# EAGLE library part JHD508-12864 (library baseOauth)
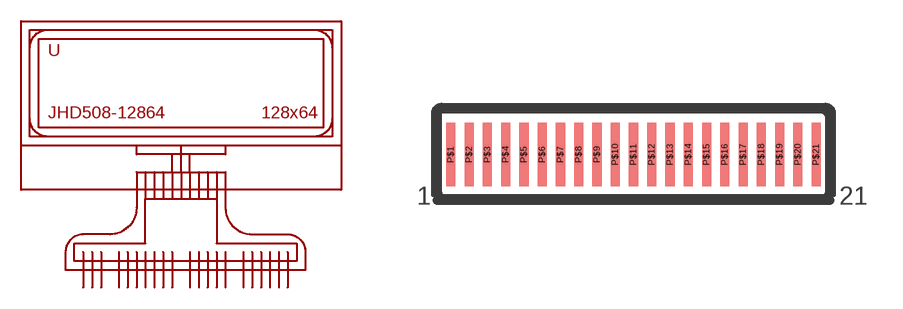
[diagram p0: symbol with the pads of FSTN; footprint FSTN]

Designator prefix -

## JHD508-12864  [FSTN]
P$1  IRS
P$2  VR
P$3  V5
P$4  V4
P$5  V3
P$6  V2
P$7  V1
P$8  CAP4N
P$9  CAP2P
P$10  CAP2N
P$11  CAP1N
P$12  CAP1P
P$13  CAP3N
P$14  VOUT
P$15  GND
P$16  VDD
P$17  SI
P$18  SCL
P$19  A0
P$20  /RES
P$21  /CS1

## Footprint FSTN (pad centres in mm)
smd 0.4 x 2.8: P$1 -8,1.4; P$2 -7.2,1.4; P$3 -6.4,1.4; P$4 -5.6,1.4; P$5 -4.8,1.4; P$6 -4,1.4; P$7 -3.2,1.4; P$8 -2.4,1.4; P$9 -1.6,1.4; P$10 -0.8,1.4; P$11 0,1.4; P$12 0.8,1.4; P$13 1.6,1.4; P$14 2.4,1.4; P$15 3.2,1.4; P$16 4,1.4; P$17 4.8,1.4; P$18 5.6,1.4; P$19 6.4,1.4; P$20 7.2,1.4; P$21 8,1.4